# Altium schematic symbol library ST-Link_V2.SchLib: 1 symbol
Pins are listed as number, name and electrical type; pins without a type are passive.

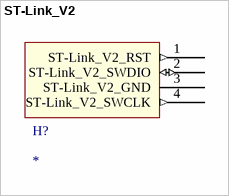
[diagram p0: symbol ST-Link_V2]

## ST-Link_V2
designator H?
footprint 4pin
pins: 1 ST-Link_V2_RST (out), 2 ST-Link_V2_SWDIO (io), 3 ST-Link_V2_GND (power), 4 ST-Link_V2_SWCLK (out)